# Altium schematic symbol library MC9S08SH16CTLR.SchLib: 1 symbol
Pins are listed as number, name and electrical type; pins without a type are passive.

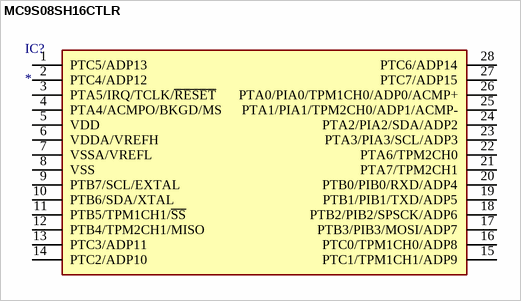
[diagram p0: symbol MC9S08SH16CTLR]

## MC9S08SH16CTLR
designator IC?
Integrated Circuit; Manufacturer_Name: NXP; Manufacturer_Part_Number: MC9S08SH16CTLR; Datasheet Link: http://www.nxp.com/docs/en/data-sheet/MC9S08SH32.pdf; Mouser Part Number: 841-MC9S08SH16CTLR; Mouser Price/Stock: https://www.mouser.com/Search/Refine.aspx?Keyword=841-MC9S08SH16CTLR
footprint SOP65P640X120-28N
pins: 1 PTC5/ADP13, 2 PTC4/ADP12, 3 PTA5/IRQ/TCLK/~{RESET}, 4 PTA4/ACMPO/BKGD/MS, 5 VDD, 6 VDDA/VREFH, 7 VSSA/VREFL, 8 VSS, 9 PTB7/SCL/EXTAL, 10 PTB6/SDA/XTAL, 11 PTB5/TPM1CH1/~{SS}, 12 PTB4/TPM2CH1/MISO, 13 PTC3/ADP11, 14 PTC2/ADP10, 15 PTC1/TPM1CH1/ADP9, 16 PTC0/TPM1CH0/ADP8, 17 PTB3/PIB3/MOSI/ADP7, 18 PTB2/PIB2/SPSCK/ADP6, 19 PTB1/PIB1/TXD/ADP5, 20 PTB0/PIB0/RXD/ADP4, 21 PTA7/TPM2CH1, 22 PTA6/TPM2CH0, 23 PTA3/PIA3/SCL/ADP3, 24 PTA2/PIA2/SDA/ADP2, 25 PTA1/PIA1/TPM2CH0/ADP1/ACMP-, 26 PTA0/PIA0/TPM1CH0/ADP0/ACMP+, 27 PTC7/ADP15, 28 PTC6/ADP14